# Altium integrated library Power_Management.IntLib: 6 symbols
Pins are listed as number, name and electrical type; pins without a type are passive.

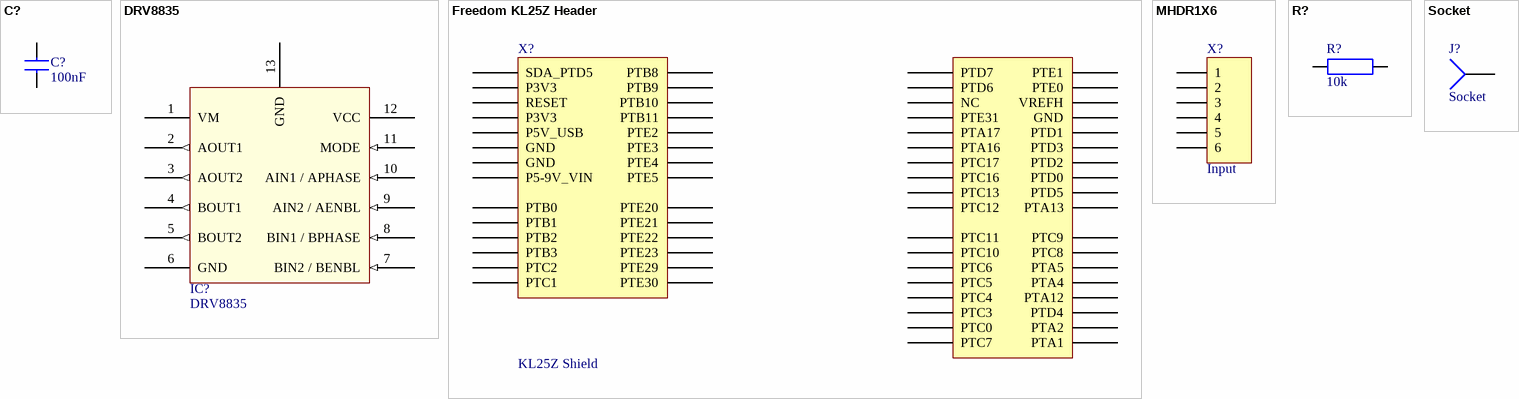
[diagram p0: symbols C? to Socket]

## C?
designator C?, comment 100nF
Normaler Kondensator
pins: 1, 2

## DRV8835
designator IC?
footprint PCBComponent_1
pins: 1 VM (power), 2 AOUT1 (out), 3 AOUT2 (out), 4 BOUT1 (out), 5 BOUT2 (out), 6 GND (power), 7 BIN2 / BENBL (in), 8 BIN1 / BPHASE (in), 9 AIN2 / AENBL (in), 10 AIN1 / APHASE (in), 11 MODE (in), 12 VCC (power), 13 GND (power)

## Freedom KL25Z Header
designator X?, comment KL25Z Shield
FRDM KL25Z Shield
footprint Freedom KL25Z Headerarray (Headerarray KL25Z Shield)
pins: 1 SDA_PTD5, 2 PTB8, 3 P3V3, 4 PTB9, 5 RESET, 6 PTB10, 7 P3V3, 8 PTB11, 9 P5V_USB, 10 PTE2, 11 GND, 12 PTE3, 13 GND, 14 PTE4, 15 P5-9V_VIN, 16 PTE5, 17 PTB0, 18 PTE20, 19 PTB1, 20 PTE21, 21 PTB2, 22 PTE22, 23 PTB3, 24 PTE23, 25 PTC2, 26 PTE29, 27 PTC1, 28 PTE30, 29 PTD7, 30 PTE1, 31 PTD6, 32 PTE0, 33 NC, 34 VREFH, 35 PTE31, 36 GND, 37 PTA17, 38 PTD1, 39 PTA16, 40 PTD3, 41 PTC17, 42 PTD2, 43 PTC16, 44 PTD0, 45 PTC13, 46 PTD5, 47 PTC12, 48 PTA13, 49 PTC11, 50 PTC9, 51 PTC10, 52 PTC8, 53 PTC6, 54 PTA5, 55 PTC5, 56 PTA4, 57 PTC4, 58 PTA12, 59 PTC3, 60 PTD4, 61 PTC0, 62 PTA2, 63 PTC7, 64 PTA1

## MHDR1X6
designator X?, comment Input
Header, 6-Pin; LatestRevisionDate: 17-Jul-2002; LatestRevisionNote: Re-released for DXP Platform.; Publisher: Altium Limited
signal-integrity model Connector
footprint HDR1X6 (Connector; Header; 6 Position)
pins: 1, 2, 3, 4, 5, 6

## R?
designator R?, comment 10k
Normaler Widerstand
pins: 1, 2

## Socket
designator J?
LatestRevisionDate: 17-Jul-2002; LatestRevisionNote: Re-released for DXP Platform.; Publisher: Altium Limited
footprint PIN1 (Connector; Socket)
signal-integrity model Connector
pins: 1